# Altium footprint library Modular_Jack_Pcb.PcbLib: 1 footprints
Each footprint in its own frame and in the unit in brackets; x right, y up, seen from the top. Pads: shape width x height; smd on the part's side, far side on the other; paste and mask are expansions set on the pad; w line width, h text height; cw(c..) or ccw(c..) is an arc to the next point about the centre after c.
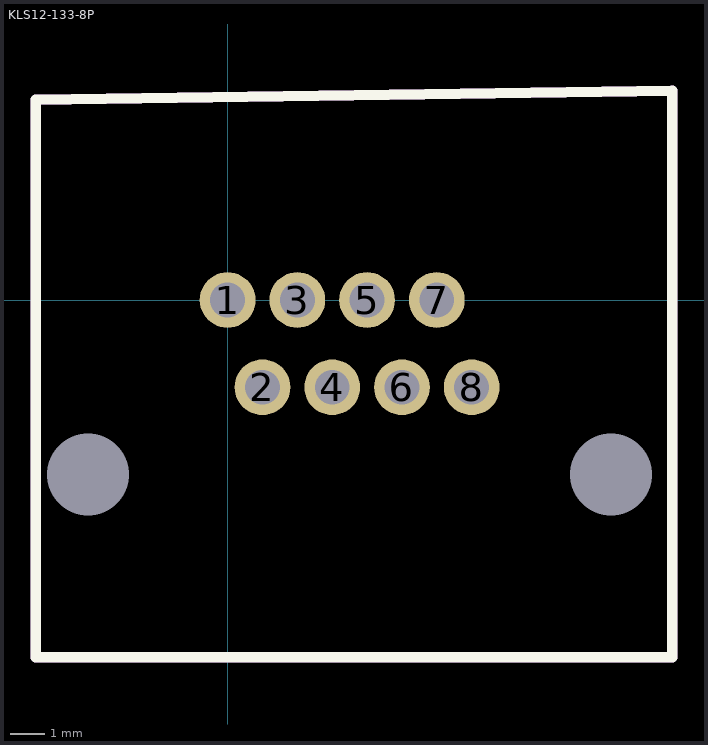
[diagram p0: the footprint, top view; thin cyan lines are the x and y axes]

## KLS12-133-8P [mm]
pads (10):
  round 1.6 hole 1: 1(0,0) 2(1,-2.5) 3(2,0) 4(3,-2.5) 5(4,0) 6(5,-2.5) 7(6,0) 8(7,-2.5)
  round 0 hole 2.35 unplated: 9(-4,-5) 10(11,-5)
Top Overlay:
  lines w0.3: -5.5,-10.25 12.75,-10.25 12.75,6.007 -5.5,5.739 -5.5,-10.25
Mechanical 13:
  lines w0.3: -5.5,-10.25 12.75,-10.25 12.75,6.007 -5.5,5.739 -5.5,-10.25
  text ".designator" at 0.224,-8.571 h1.5
3D body "ACC-M-RJHSE-538X-REVT1.step": height 15.15, standoff -3.69, extent -4.665,-10.352 12.166,5.851